# Altium footprint library Charger_PCBLIB.PcbLib: 32 footprints (part 2 of 2)
Each footprint in its own frame and in the unit in brackets; x right, y up, seen from the top. Pads: shape width x height; smd on the part's side, far side on the other; paste and mask are expansions set on the pad; w line width, h text height; cw(c..) or ccw(c..) is an arc to the next point about the centre after c.
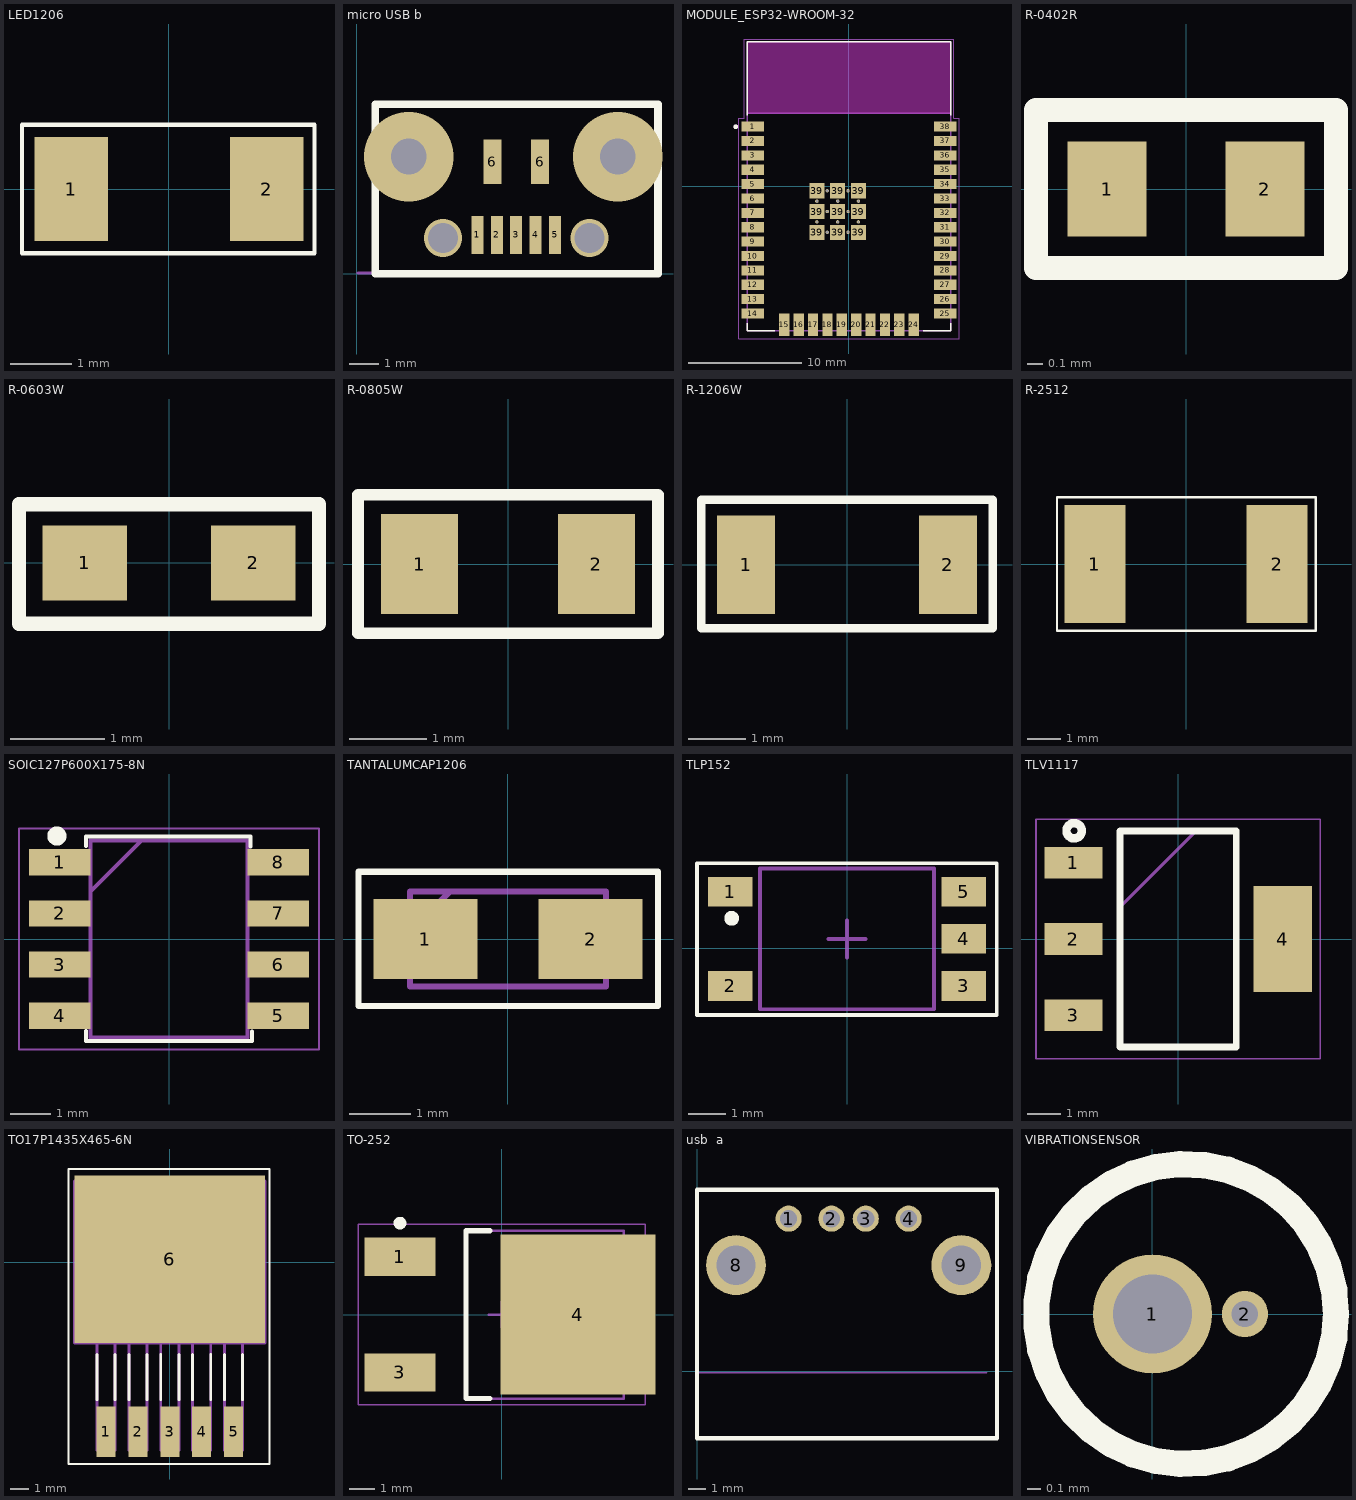
[diagram p1: the footprints below, top view; thin cyan lines are the x and y axes]

## LED1206 [mm]
pads (2):
  rect 1.2x1.7 smd: 1(-1.6,0) 2(1.6,0)
Top Overlay:
  lines w0.07: -2.4,-1.05 -2.4,1.05 2.375,1.05 2.375,0.692 2.375,0.556 2.375,-0.531 2.375,-1.05 -2.4,-1.05
3D body "SML-LXLC1206.stp": height 1.11, standoff 0, extent -1.73,-0.8 1.476,0.8

## micro USB b [mm]
pads (7):
  rect 0.4x1.27 smd: 1(4.05,1.3) 2(4.7,1.3) 3(5.35,1.3) 4(6,1.3) 5(6.65,1.3)
  rect 0.6x1.5 smd: 6(4.55,3.75) 6(6.15,3.75)
via 2.9,1.2 diameter 1.27 hole 1
via 7.8,1.2 diameter 1.27 hole 1
via 1.75,3.925 diameter 3 hole 1.2
via 8.75,3.925 diameter 3 hole 1.2
Top Overlay:
  lines w0.254: 0.625,0 0.625,5.675 10.1,5.675 10.1,0 0.625,0
Mechanical 15:
  lines w0.1: 0.05,0.025 10.1,0.025
3D body "zx62rd-ab-5p8.stp": height 2.74, standoff -0.64, extent 1.025,1.09 9.675,6.988
3D body: height 14.94, standoff -3.61, extent 17.59,-3.547 17.59,-3.547

## MODULE_ESP32-WROOM-32 [mm]
pads (59):
  rect 2x0.9 smd: 1(-8.5,5.26) 2(-8.5,3.99) 3(-8.5,2.72) 4(-8.5,1.45) 5(-8.5,0.18) 6(-8.5,-1.09) 7(-8.5,-2.36) 8(-8.5,-3.63) 9(-8.5,-4.9) 10(-8.5,-6.17) 11(-8.5,-7.44) 12(-8.5,-8.71) 13(-8.5,-9.98) 14(-8.5,-11.25) 25(8.5,-11.25) 26(8.5,-9.98) 27(8.5,-8.71) 28(8.5,-7.44) 29(8.5,-6.17) 30(8.5,-4.9) 31(8.5,-3.63) 32(8.5,-2.36) 33(8.5,-1.09) 34(8.5,0.18) 35(8.5,1.45) 36(8.5,2.72) 37(8.5,3.99) 38(8.5,5.26)
  rect 0.9x2 smd: 15(-5.715,-12.25) 16(-4.445,-12.25) 17(-3.175,-12.25) 18(-1.905,-12.25) 19(-0.635,-12.25) 20(0.635,-12.25) 21(1.905,-12.25) 22(3.175,-12.25) 23(4.445,-12.25) 24(5.715,-12.25)
  rect 1.33x1.33 smd: 39(-2.835,-4.075) 39(-2.835,-2.24) 39(-2.835,-0.405) 39(-1,-4.075) 39(-1,-2.24) 39(-1,-0.405) 39(0.835,-4.075) 39(0.835,-2.24) 39(0.835,-0.405)
  round 0.3 hole 0.2: 39(-2.835,-3.157) 39(-2.835,-1.322) 39(-1.917,-4.075) 39(-1.917,-2.24) 39(-1.917,-0.405) 39(-1,-3.157) 39(-1,-1.322) 39(-0.082,-4.075) 39(-0.082,-2.24) 39(-0.082,-0.405) 39(0.835,-3.157) 39(0.835,-1.322)
Top Overlay:
  circle w0.2: c-10,5.25 r0.1
  lines w0.127: -9,-12.1 -9,-12.75 -6.55,-12.75 ; -9,6.25 -9,12.75 9,12.75 9,6.25 ; 6.55,-12.75 9,-12.75 9,-12.1
Keep-Out Layer:
  region: 9,6.45 -9,6.45 -9,12.75 9,12.75
  region: 9,6.45 -9,6.45 -9,12.75 9,12.75
Mechanical 13:
  circle w0.2: c-10,5.25 r0.1
  lines w0.127: -9,6.45 9,6.45 ; -9,6.45 -9,12.75 9,12.75 9,6.45 ; -9,6.45 -9,-12.75 9,-12.75 9,6.45
  text "ANTENNA" at -6,9 h1.78
Mechanical 15:
  lines w0.05: -9.75,-13.5 -9.75,6 -9.25,6 -9.25,13 9.25,13 9.25,6 9.75,6 9.75,-13.5 -9.75,-13.5
3D body "User Library-esp-wroom-32.STEP": height 3.05, standoff 0.01, extent -9.053,-12.77 9.017,12.77

## R-0402R [mm] "resistor 0402 reflow soldering"
pads (2):
  rect 0.5x0.6 smd: 1(-0.5,0) 2(0.5,0)
Top Overlay:
  lines w0.152: -0.95,-0.5 0.5,-0.5 0.95,-0.5 0.95,0.5 0.5,0.5 -0.95,0.5 -0.95,-0.5
3D body "RES0402.stp": height 0.3, standoff 0, extent -0.5,-0.25 0.5,0.25

## R-0603W [mm] "resistor 0603 wave soldering"
pads (2):
  rect 0.9x0.8 smd: 1(-0.9,0) 2(0.9,0)
Top Overlay:
  lines w0.152: -1.6,-0.65 0.5,-0.65 1.6,-0.65 1.6,0.625 0.475,0.625 -1.6,0.625 -1.6,-0.65
3D body "res0603.stp": height 0.45, standoff 0, extent -0.8,-0.4 0.8,0.4

## R-0805W [mm] "resistor 0805 wave soldering"
pads (2):
  rect 1x1.3 smd: 1(-1.15,0) 2(1.15,0)
Top Overlay:
  lines w0.152: -1.95,-0.9 -0.9,-0.9 1.95,-0.9 1.95,0.9 -0.9,0.9 -1.95,0.9 -1.95,-0.9
3D body "RES0805.stp": height 0.5, standoff 0, extent -1,-0.625 1,0.625

## R-1206W [mm] "resistor 1206 wave soldering"
pads (2):
  rect 1x1.7 smd: 1(-1.75,0) 2(1.75,0)
Top Overlay:
  lines w0.152: -2.525,-1.1 -2.525,1.125 1.605,1.125 2.525,1.125 2.525,-1.1 -2.525,-1.1
3D body "RES1206.stp": height 0.55, standoff 0, extent -1.55,-0.775 1.55,0.777

## R-2512 [mm]
pads (2):
  rect 1.8x3.5 smd: 1(-2.7,0) 2(2.7,0)
Top Overlay:
  lines w0.07: -3.825,-1.975 -3.825,0.525 -3.825,1.975 3.85,1.975 3.85,-1.975 -3.825,-1.975
3D body "User Library-R SMD 2512.STEP": height 0.59, standoff -0.01, extent -3.206,-1.575 3.094,1.575

## SOIC127P600X175-8N [mm]
pads (8):
  rect 1.525x0.65 smd: 1(-2.712,1.905) 2(-2.712,0.635) 3(-2.712,-0.635) 4(-2.712,-1.905) 5(2.712,-1.905) 6(2.712,-0.635) 7(2.712,0.635) 8(2.712,1.905)
Top Overlay:
  circle w0.254: c-2.785,2.556 r0.11
  lines w0.1: -2.066,2.307 -2.066,2.549 2.023,2.549 2.023,2.301 ; -2.061,-2.286 -2.061,-2.529 2.066,-2.529 2.066,-2.295
Mechanical 13:
  lines w0.1: -1.95,1.18 -0.68,2.45 ; -1.95,-2.45 -1.95,2.45 1.95,2.45 1.95,-2.45 -1.95,-2.45
Mechanical 15:
  lines w0.05: -3.725,-2.75 -3.725,2.75 3.725,2.75 3.725,-2.75 -3.725,-2.75
3D body "NE555DR.stp": height 1.75, standoff 0, extent -3,-2.45 3,2.45

## TANTALUMCAP1206 [mm]
pads (2):
  rect 1.7x1.3 smd: 1(-1.35,0) 2(1.35,0)
Top Overlay:
  lines w0.1: -2.443,-1.093 -2.443,1.099 2.451,1.099 2.451,-1.093 -2.443,-1.093
Mechanical 13:
  lines w0.1: -1.6,0.125 -0.95,0.775 ; -1.6,-0.775 1.6,-0.775 1.6,0.775 -1.6,0.775 -1.6,-0.775
Mechanical 15:
  lines w0.05: -2.45,-1.1 2.45,-1.1 2.45,1.1 -2.45,1.1 -2.45,-1.1
3D body "TAJA104K035KNJ.stp": height 1.8, standoff 0, extent -1.6,-0.775 1.6,0.775

## TLP152 [mm] "SOTFL, 5-Leads, Body 3.75x7.20mm, Pitch 1.27mm, IPC Medium Density"
height 2.2
pads (5):
  rect 1.2x0.8 smd: 1(-3.15,1.524) 2(-3.15,-1.016) 3(3.15,-1.016) 4(3.15,0.254) 5(3.15,1.524)
Top Overlay:
  lines w0.1: -4.049,-1.799 -4.049,2.295 4.044,2.295 4.044,-1.799 4.042,-1.8 -4.048,-1.8 -4.049,-1.799
  lines w0.25: -3.041,0.816 ccw(c-3.115,0.809) -3.041,0.808
Assembly Top:
  lines w0.1: -2.35,-1.646 -2.35,2.154 2.35,2.154 2.35,-1.646 -2.35,-1.646
Courtyard Top:
  lines w0.05: -4.05,-1.796 -4.05,2.304 4.05,2.304 4.05,-1.796 -4.05,-1.796
  lines w0.1: -0.5,0.254 0.5,0.254 ; 0,-0.246 0,0.754
3D body "User Library-TLP-152-1.STEP": height 2.11, standoff 0.01, extent -3.393,-1.651 3.383,2.149

## TLV1117 [mm]
pads (4):
  rect 1.75x0.95 smd: 1(-3.15,2.3) 2(-3.15,0) 3(-3.15,-2.3)
  rect 1.75x3.2 smd: 4(3.15,0)
Top Overlay:
  circle w0.254: c-3.127,3.256 r0.231
  lines w0.2: -1.75,-3.25 1.75,-3.25 1.75,3.25 -1.75,3.25 -1.75,-3.25
Mechanical 13:
  lines w0.1: -1.75,0.95 0.55,3.25 ; -1.75,-3.25 1.75,-3.25 1.75,3.25 -1.75,3.25 -1.75,-3.25
Mechanical 15:
  lines w0.05: -4.275,-3.6 4.275,-3.6 4.275,3.6 -4.275,3.6 -4.275,-3.6
3D body "TLV1117-33IDCYR.stp": height 1.8, standoff 0, extent -3.5,-3.25 3.5,3.25

## TO17P1435X465-6N [mil]
pads (6):
  rect 40x106 smd: 1(-134,-356) 2(-67,-356) 3(0,-356) 4(67,-356) 5(134,-356)
  rect 400x352 smd: 6(0,6)
Top Overlay:
  lines w3.94: -212.47,-423.79 -212.47,195.52 209.17,195.52 209.17,-423.79 -212.47,-423.79
  lines w6: -153,-289 -153,-194 ; -115,-289 -115,-194 ; -86,-289 -86,-194 ; -48,-289 -48,-194 ; -19,-289 -19,-194 ; 19,-289 19,-194 ; 48,-289 48,-194 ; 86,-289 86,-194 ; 115,-289 115,-194 ; 153,-289 153,-194
Mechanical 13:
  lines w6: -200,-170 200,-170 200,170 -200,170 -200,-170 ; -153,-395 -153,-170 -115,-170 -115,-395 -153,-395 ; -86,-395 -86,-170 -48,-170 -48,-395 -86,-395 ; -19,-395 -19,-170 19,-170 19,-395 -19,-395 ; 48,-395 48,-170 86,-170 86,-395 48,-395 ; 115,-395 115,-170 153,-170 153,-395 115,-395
3D body "LM2596SX-12--3DModel-STEP-56544.STEP": height 183.5, standoff -5.5, extent -200.98,-391.77 199.02,173.23

## TO-252 [mm]
height 2.4
pads (3):
  rect 2.8x1.5 smd: 1(-4,2.275) 3(-4,-2.275)
  rect 6.1x6.3 smd: 4(3,0)
Top Overlay:
  circle w0.25: c-4,3.6 r0.125
  lines w0.2: -0.45,-3.3 -1.4,-3.3 -1.4,3.3 -0.45,3.3
Assembly Top:
  lines w0.1: -1.4,-3.3 4.8,-3.3 4.8,3.3 -1.4,3.3 -1.4,-3.3
Courtyard Top:
  lines w0.05: -5.65,-3.55 5.65,-3.55 5.65,3.55 -5.65,3.55 -5.65,-3.55
  lines w0.1: -0.5,0 0.5,0 ; 0,-0.5 0,0.5
3D body "User Library-DPAK_TO-252AA.step": height 2.41, standoff 0.01, extent -4.523,-3.367 5.577,3.367

## usb  a [mm]
pads (6):
  round 1.524 hole 1: 1(5.345,8.91) 2(7.845,8.91) 3(9.845,8.91) 4(12.345,8.91)
  round 3.5 hole 2.3: 8(2.275,6.2) 9(15.415,6.2)
Top Overlay:
  lines w0.254: 0,-3.9 17.5,-3.9 17.5,10.6 0,10.6 0,-3.9
Mechanical 15:
  lines w0.1: 0,9.9 0,-0.075 16.906,-0.075
3D body "1-292303-3.stp": height 7.39, standoff -3.98, extent 0.647,-4.221 16.879,9.779

## VIBRATIONSENSOR [mm]
pads (2):
  round 0.9 hole 0.6: 1(0,0)
  round 0.35 hole 0.2: 2(0.7,0)
Top Overlay:
  circle w0.2: c0.254,0 r1.136